# Altium footprint library PcbLib_IMX7.PcbLib: 32 footprints (part 2 of 2)
Each footprint in its own frame and in the unit in brackets; x right, y up, seen from the top. Pads: shape width x height; smd on the part's side, far side on the other; paste and mask are expansions set on the pad; w line width, h text height; cw(c..) or ccw(c..) is an arc to the next point about the centre after c.
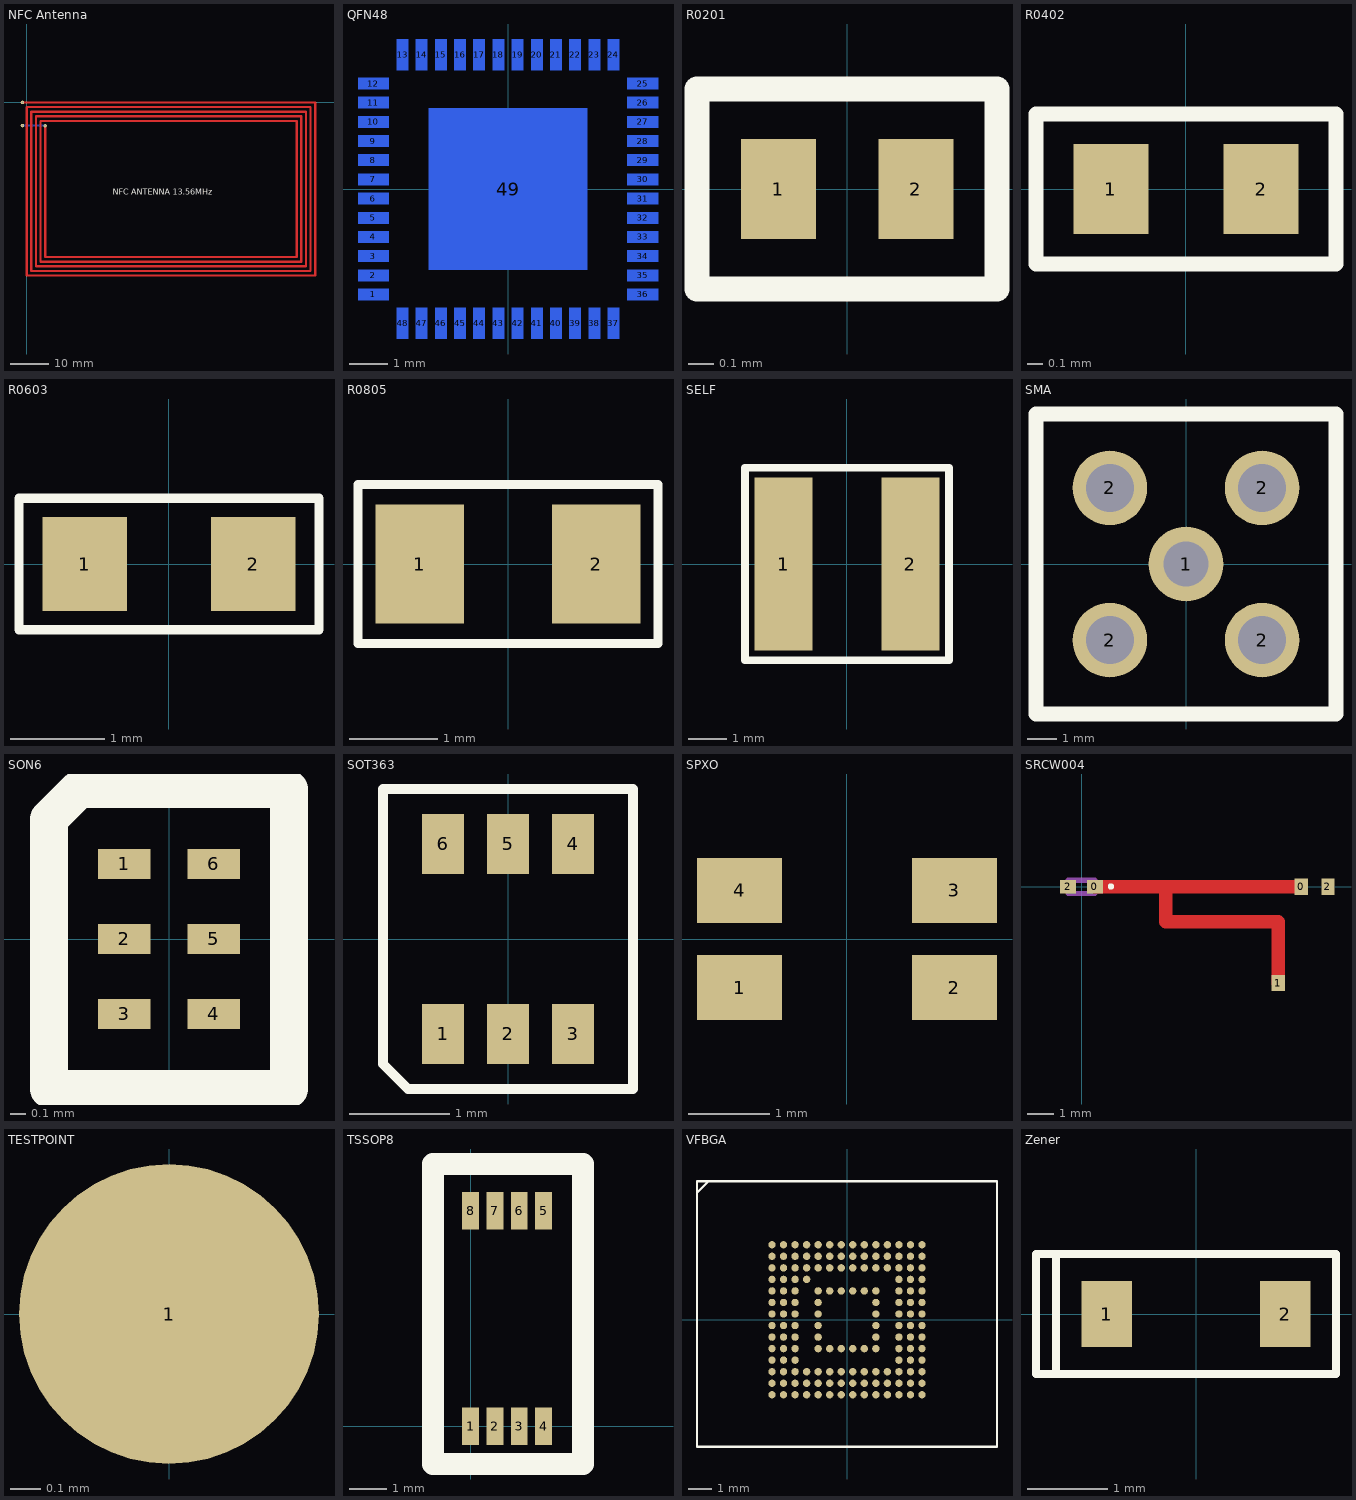
[diagram p1: the footprints below, top view; thin cyan lines are the x and y axes]

## NFC Antenna [mm]
pads (2):
  round 0.9 hole 0.3 unplated: 1(-1.1,0) 2(-1.1,-6)
via 4.8,-6 diameter 0.9 hole 0.3
Top Layer:
  lines w0.6: -1.1,0 0,0 75,0 75,-45 0,-45 0,-1.2 73.8,-1.2 73.8,-43.8 1.2,-43.8 1.2,-2.4 72.6,-2.4 72.6,-42.6 2.4,-42.6 2.4,-3.6 71.4,-3.6 71.4,-41.4 3.6,-41.4 3.6,-4.8 70.2,-4.8 70.2,-40.2 4.8,-40.2 4.8,-6
Bottom Layer:
  lines w0.6: -1.1,-6 4.8,-6
Top Overlay:
  text "NFC ANTENNA 13.56MHz" at 22.4,-24 h1.52
Multi-Layer:
  pour cut-out: -2,1 76,1 76,-46 -2,-46

## QFN48 [mm]
pads (49):
  rect 0.8x0.3 smd far side: 1(-3.51,-2.75) 2(-3.51,-2.25) 3(-3.51,-1.75) 4(-3.51,-1.25) 5(-3.51,-0.75) 6(-3.51,-0.25) 7(-3.51,0.25) 8(-3.51,0.75) 9(-3.51,1.25) 10(-3.51,1.75) 11(-3.51,2.25) 12(-3.51,2.75) 25(3.51,2.75) 26(3.51,2.25) 27(3.51,1.75) 28(3.51,1.25) 29(3.51,0.75) 30(3.51,0.25) 31(3.51,-0.25) 32(3.51,-0.75) 33(3.51,-1.25) 34(3.51,-1.75) 35(3.51,-2.25) 36(3.51,-2.75)
  rect 0.3x0.8 smd far side: 13(-2.75,3.5) 14(-2.25,3.5) 15(-1.75,3.5) 16(-1.25,3.5) 17(-0.75,3.5) 18(-0.25,3.5) 19(0.25,3.5) 20(0.75,3.5) 21(1.25,3.5) 22(1.75,3.5) 23(2.25,3.5) 24(2.75,3.5) 37(2.75,-3.5) 38(2.25,-3.5) 39(1.75,-3.5) 40(1.25,-3.5) 41(0.75,-3.5) 42(0.25,-3.5) 43(-0.25,-3.5) 44(-0.75,-3.5) 45(-1.25,-3.5) 46(-1.75,-3.5) 47(-2.25,-3.5) 48(-2.75,-3.5)
  rect 4.14x4.22 smd far side: 49(0,0)
Bottom Overlay:
  lines w0.2: -3.5,3.25 -3.5,3.5 -3.25,3.5 ; 3.25,-3.5 3.5,-3.5 3.5,-3.25 ; 3.25,3.5 3.5,3.5 3.5,3.25 ; -3.5,-3.5 -3.25,-3.5 -3.5,-3.25 -3.5,-3.5
3D body "ALSRobot-QFN48 7x7.STEP": height -0.41, standoff -1.21, extent -3.51,-3.49 3.51,3.53

## R0201 [mm]
pads (2):
  rect 0.3x0.4 smd: 1(-0.275,0) 2(0.275,0)
Top Overlay:
  lines w0.1: -0.6,-0.4 0.6,-0.4 0.6,0.4 -0.6,0.4 -0.6,-0.4
3D body "User Library-RES_0603-0201.STEP": height 0.34, standoff 0, extent -0.34,-0.165 0.34,0.165

## R0402 [mm]
pads (2):
  rect 0.5x0.6 smd: 1(-0.5,0) 2(0.5,0)
Top Overlay:
  lines w0.1: -1,-0.5 1,-0.5 1,0.5 -1,0.5 -1,-0.5
3D body "User Library-RES_1005-0402.STEP": height 0.41, standoff 0, extent -0.575,-0.275 0.575,0.275

## R0603 [mm]
pads (2):
  rect 0.9x1 smd: 1(-0.9,0) 2(0.9,0)
Top Overlay:
  lines w0.1: -1.6,-0.7 -1.6,0.7 1.6,0.7 1.6,-0.7 -1.6,-0.7
3D body "User Library-RES_1609-0603.STEP": height 0.56, standoff 0, extent -0.85,-0.4 0.85,0.4

## R0805 [mm]
pads (2):
  rect 1x1.35 smd: 1(-1,0) 2(1,0)
Top Overlay:
  lines w0.1: -1.7,-0.9 1.7,-0.9 1.7,0.9 -1.7,0.9 -1.7,-0.9
3D body "User Library-RES_2013-0805.STEP": height 0.76, standoff 0, extent -1.15,-0.675 1.15,0.675

## SELF [mm]
pads (2):
  rect 1.5x4.5 smd: 1(-1.65,0) 2(1.65,0)
Top Overlay:
  lines w0.2: -2.65,-2.5 -2.65,0 -2.65,2.5 2.65,2.5 2.65,-2.5 -2.65,-2.5
3D body "User Library-SDR0403.STEP": height 3.5, standoff 0, extent -2.25,-2.25 2.25,2.25

## SMA [mm]
pads (5):
  round 2.5 hole 1.5 unplated: 1(0,0)
  round 2.5 hole 1.6 unplated: 2(-2.55,-2.55) 2(-2.55,2.55) 2(2.55,-2.55) 2(2.55,2.55)
Top Overlay:
  lines w0.5: -5.025,-5.025 5.025,-5.025 5.025,5.025 -5.025,5.025 -5.025,-5.025
3D body "11945.stp": height 10.18, standoff -3.66, extent -3.175,-10.85 3.175,3.35

## SON6 [mm]
pads (6):
  rect 0.35x0.2 smd: 1(-0.3,0.5) 2(-0.3,0) 3(-0.3,-0.5) 4(0.3,-0.5) 5(0.3,0) 6(0.3,0.5)
Top Overlay:
  lines w0.254: -0.8,-1 -0.8,0.8 -0.6,1 0.8,1 0.8,-1 -0.8,-1

## SOT363 [mm]
pads (6):
  rect 0.42x0.6 smd: 1(-0.65,-0.95) 2(0,-0.95) 3(0.65,-0.95) 4(0.65,0.95) 5(0,0.95) 6(-0.65,0.95)
Top Overlay:
  lines w0.1: -1.25,-1.25 -1.25,1.5 1.25,1.5 1.25,-1.5 -1,-1.5 -1.25,-1.25
3D body "User Library-sot363.STEP": height 1, standoff 0, extent -1.05,-1.15 1.05,1.15

## SPXO [mm]
pads (4):
  rect 1.05x0.8 smd: 1(-1.325,-0.6) 2(1.325,-0.6) 3(1.325,0.6) 4(-1.325,0.6)
3D body "User Library-FX135A-327.STEP": height 0.9, standoff -0.01, extent -1.6,-0.75 1.6,0.75

## SRCW004 [mm]
pads (5):
  rect 0.6x0.5 smd: 0(0.5,0) 2(-0.5,0)
  rect 0.5x0.6 smd: 0(8.2,0) 1(7.35,-3.6) 2(9.2,0)
Top Layer:
  pour cut-out: -1.7,-1.5
  lines w0.5: 0.5,0 8.2,0 ; 3.15,0 3.15,-1.3 7.35,-1.3 7.35,-3.6
Top Overlay:
  circle w0.2: c1.099,0.011 r0.02
Mechanical 13:
  lines w0.2: -0.5,-0.25 -0.5,0.25 0.5,0.25 0.5,-0.25 -0.5,-0.25
Multi-Layer:
  pour cut-out: -0.5,0.3 8.5,0.3 8.5,-4.2 -0.5,-4.2
3D body "User Library-RES_1005-0402.STEP": height 0.41, standoff 0, extent 8.125,-0.275 9.275,0.275

## TESTPOINT [mm]
pads (1):
  round 1 smd: 1(0,0)

## TSSOP8 [mm]
pads (8):
  rect 0.45x1 smd: 1(0,0) 2(0.65,0) 3(1.3,0) 4(1.95,0) 5(1.95,5.75) 6(1.3,5.75) 7(0.65,5.75) 8(0,5.75)
Top Overlay:
  lines w0.6: -1,-1 3,-1 3,7 -1,7 -1,-1
3D body "User Library-TSS0P8.STEP": height 1.09, standoff 0, extent -0.5,-0.34 2.5,5.94

## VFBGA [mm]
pads (153):
  round 0.319 smd: A1(-3.25,3.25) A2(-2.75,3.25) A3(-2.25,3.25) A4(-1.75,3.25) A5(-1.25,3.25) A6(-0.75,3.25) A7(-0.25,3.25) A8(0.25,3.25) A9(0.75,3.25) A10(1.25,3.25) A11(1.75,3.25) A12(2.25,3.25) A13(2.75,3.25) A14(3.25,3.25) B1(-3.25,2.75) B2(-2.75,2.75) B3(-2.25,2.75) B4(-1.75,2.75) B5(-1.25,2.75) B6(-0.75,2.75) B7(-0.25,2.75) B8(0.25,2.75) B9(0.75,2.75) B10(1.25,2.75) B11(1.75,2.75) B12(2.25,2.75) B13(2.75,2.75) B14(3.25,2.75) C1(-3.25,2.25) C2(-2.75,2.25) C3(-2.25,2.25) C4(-1.75,2.25) C5(-1.25,2.25) C6(-0.75,2.25) C7(-0.25,2.25) C8(0.25,2.25) C9(0.75,2.25) C10(1.25,2.25) C11(1.75,2.25) C12(2.25,2.25) C13(2.75,2.25) C14(3.25,2.25) D1(-3.25,1.75) D2(-2.75,1.75) D3(-2.25,1.75) D4(-1.75,1.75) D12(2.25,1.75) D13(2.75,1.75) D14(3.25,1.75) E1(-3.25,1.25) E2(-2.75,1.25) E3(-2.25,1.25) E5(-1.25,1.25) E6(-0.75,1.25) E7(-0.25,1.25) E8(0.25,1.25) E9(0.75,1.25) E10(1.25,1.25) E12(2.25,1.25) E13(2.75,1.25) E14(3.25,1.25) F1(-3.25,0.75) F2(-2.75,0.75) F3(-2.25,0.75) F5(-1.25,0.75) F10(1.25,0.75) F12(2.25,0.75) F13(2.75,0.75) F14(3.25,0.75) G1(-3.25,0.25) G2(-2.75,0.25) G3(-2.25,0.25) G5(-1.25,0.25) G10(1.25,0.25) G12(2.25,0.25) G13(2.75,0.25) G14(3.25,0.25) H1(-3.25,-0.25) H2(-2.75,-0.25) H3(-2.25,-0.25) H5(-1.25,-0.25) H10(1.25,-0.25) H12(2.25,-0.25) H13(2.75,-0.25) H14(3.25,-0.25) J1(-3.25,-0.75) J2(-2.75,-0.75) J3(-2.25,-0.75) J5(-1.25,-0.75) J10(1.25,-0.75) J12(2.25,-0.75) J13(2.75,-0.75) J14(3.25,-0.75) K1(-3.25,-1.25) K2(-2.75,-1.25) K3(-2.25,-1.25) K5(-1.25,-1.25) K6(-0.75,-1.25) K7(-0.25,-1.25) K8(0.25,-1.25) K9(0.75,-1.25) K10(1.25,-1.25) K12(2.25,-1.25) K13(2.75,-1.25) K14(3.25,-1.25) L1(-3.25,-1.75) L2(-2.75,-1.75) L3(-2.25,-1.75) L12(2.25,-1.75) L13(2.75,-1.75) L14(3.25,-1.75) M1(-3.25,-2.25) M2(-2.75,-2.25) M3(-2.25,-2.25) M4(-1.75,-2.25) M5(-1.25,-2.25) M6(-0.75,-2.25) M7(-0.25,-2.25) M8(0.25,-2.25) M9(0.75,-2.25) M10(1.25,-2.25) M11(1.75,-2.25) M12(2.25,-2.25) M13(2.75,-2.25) M14(3.25,-2.25) N1(-3.25,-2.75) N2(-2.75,-2.75) N3(-2.25,-2.75) N4(-1.75,-2.75) N5(-1.25,-2.75) N6(-0.75,-2.75) N7(-0.25,-2.75) N8(0.25,-2.75) N9(0.75,-2.75) N10(1.25,-2.75) N11(1.75,-2.75) N12(2.25,-2.75) N13(2.75,-2.75) N14(3.25,-2.75) P1(-3.25,-3.25) P2(-2.75,-3.25) P3(-2.25,-3.25) P4(-1.75,-3.25) P5(-1.25,-3.25) P6(-0.75,-3.25) P7(-0.25,-3.25) P8(0.25,-3.25) P9(0.75,-3.25) P10(1.25,-3.25) P11(1.75,-3.25) P12(2.25,-3.25) P13(2.75,-3.25) P14(3.25,-3.25)
Top Overlay:
  lines w0.1: -6,6 -6.5,5.5 ; -6.5,5.5 -6.5,5.5 ; -6.5,-5.5 -6.5,6 6.5,6 6.5,-5.5 -6.5,-5.5

## Zener [mm]
pads (2):
  rect 0.63x0.83 smd: 1(-1.115,0) 2(1.115,0)
Top Overlay:
  lines w0.1: -1.75,-0.75 1.75,-0.75 1.75,0.75 -1.75,0.75 ; -1.75,-0.75 -1.75,0.75 ; -1.75,-0.75 -2,-0.75 -2,0.75 -1.75,0.75
3D body "User Library-SOD-323.STEP": height 1.1, standoff 0, extent -1.3,-0.675 1.3,0.675